# Altium schematic symbol library tc2050.SchLib: 1 symbol
Pins are listed as number, name and electrical type; pins without a type are passive.

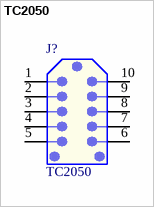
[diagram p0: symbol TC2050]

## TC2050
designator J?
TC2050 JTAG CONNECTOR DNP
footprint TC2050 - NOBODY (TAG CONNECT PLUG OF NAILS VICTIM)
footprint TC2050 (TAG CONNECT PLUG  OF NAILS VICTIM AND PLUG BODY)
pins: 1, 2, 3, 4, 5, 6, 7, 8, 9, 10